# EAGLE library part MAX3378 (library 1_Robo-Lib)
Quad Low-Voltage Level Translator The MAX3372E–MAX3379E and MAX3390E–MAX3393E ±15kV ESD-protected level translators provide the level shifting necessary to allow data transfer in a multivoltage system. Externally applied voltages, VCC and VL, set the logic levels on either side of the device. A low-voltage logic signal present on the VL side of the device appears as a high-voltage logic signal on the VCC side of the device, and vice-versa. The MAX3374E/MAX3375E/MAX3376E/MAX3379E and MAX3390E–MAX3393E unidirectional level translators level shift data in one direction (VL → VCC or VCC → VL) on any single data line. The MAX3372E/MAX3373E and MAX3377E/MAX3378E bidirectional level translators utilize a transmission-gate-based design (Figure 2 in the full data sheet) to allow data translation in either direction (VL ⇔ VCC) on any single data line. The MAX3372E–MAX3379E and MAX3390E–MAX3393E accept VL from +1.2V to +5.5V and VCC from +1.65V to +5.5V, making them ideal for data transfer between low-voltage ASICs/PLDs and higher voltage systems. All devices in the MAX3372E–MAX3379E, MAX3390E–MAX3393E family feature a three-state output mode that reduces supply current to less than 1µA, thermal shortcircuit protection, and ±15kV ESD protection on the VCC side for greater protection in applications that route signals externally. The MAX3372E/MAX3377E operate at a guaranteed data rate of 230kbps. Slew-rate limiting reduces EMI emissions in all 230kbps devices. The MAX3373E–MAX3376E/MAX3378E/MAX3379E and MAX3390E–MAX3393E operate at a guaranteed data rate of 8Mbps over the entire specified operating voltage range. Within specific voltage domains, higher data rates are possible. (See the Timing Characteristics table in the full data sheet.) The MAX3372E–MAX3376E are dual level shifters available in 3 x 3 UCSP™, 8-pin TDFN, and 8-pin SOT23 packages. The MAX3377E/MAX3378E/MAX3379E and MAX3390E–MAX3393E are quad level shifters available in 3 x 4 UCSP, 14-pin TDFN, and 14-pin TSSOP packages. Datasheet <http://datasheets.maximintegrated.com/en/ds/MAX3372E-MAX3393E.pdf>
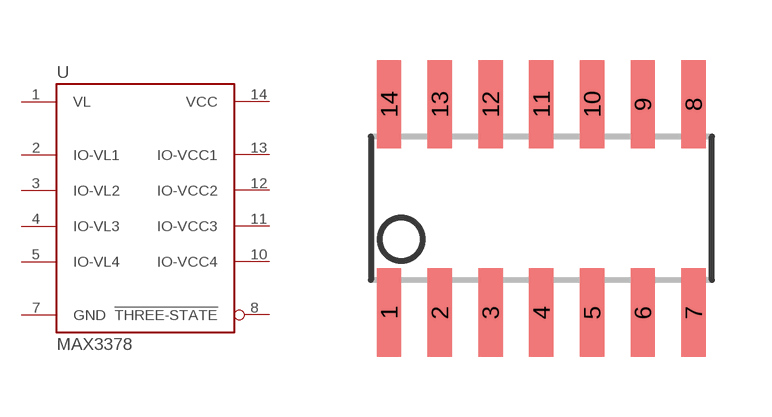
[diagram p14: symbol with the pads of SO14; footprint SO14]

Designator prefix -

## MAX3378  [SO14]
1  VL  pwr
2  IO-VL1
3  IO-VL2
4  IO-VL3
5  IO-VL4
7  GND  pwr
8  !THREE-STATE
10  IO-VCC4
11  IO-VCC3
12  IO-VCC2
13  IO-VCC1
14  VCC  pwr

## Footprint SO14 (pad centres in mm)
Small Outline Package
smd 0.61 x 2.21: 1 -3.81,-2.603; 2 -2.54,-2.603; 3 -1.27,-2.603; 4 0,-2.603; 5 1.27,-2.603; 6 2.54,-2.603; 7 3.81,-2.603; 8 3.81,2.603; 9 2.54,2.603; 10 1.27,2.603; 11 0,2.603; 12 -1.27,2.603; 13 -2.54,2.603; 14 -3.81,2.603